# Altium footprint library 插座.PcbLib: 91 footprints (part 6 of 6)
Each footprint in its own frame and in the unit in brackets; x right, y up, seen from the top. Pads: shape width x height; smd on the part's side, far side on the other; paste and mask are expansions set on the pad; w line width, h text height; cw(c..) or ccw(c..) is an arc to the next point about the centre after c.
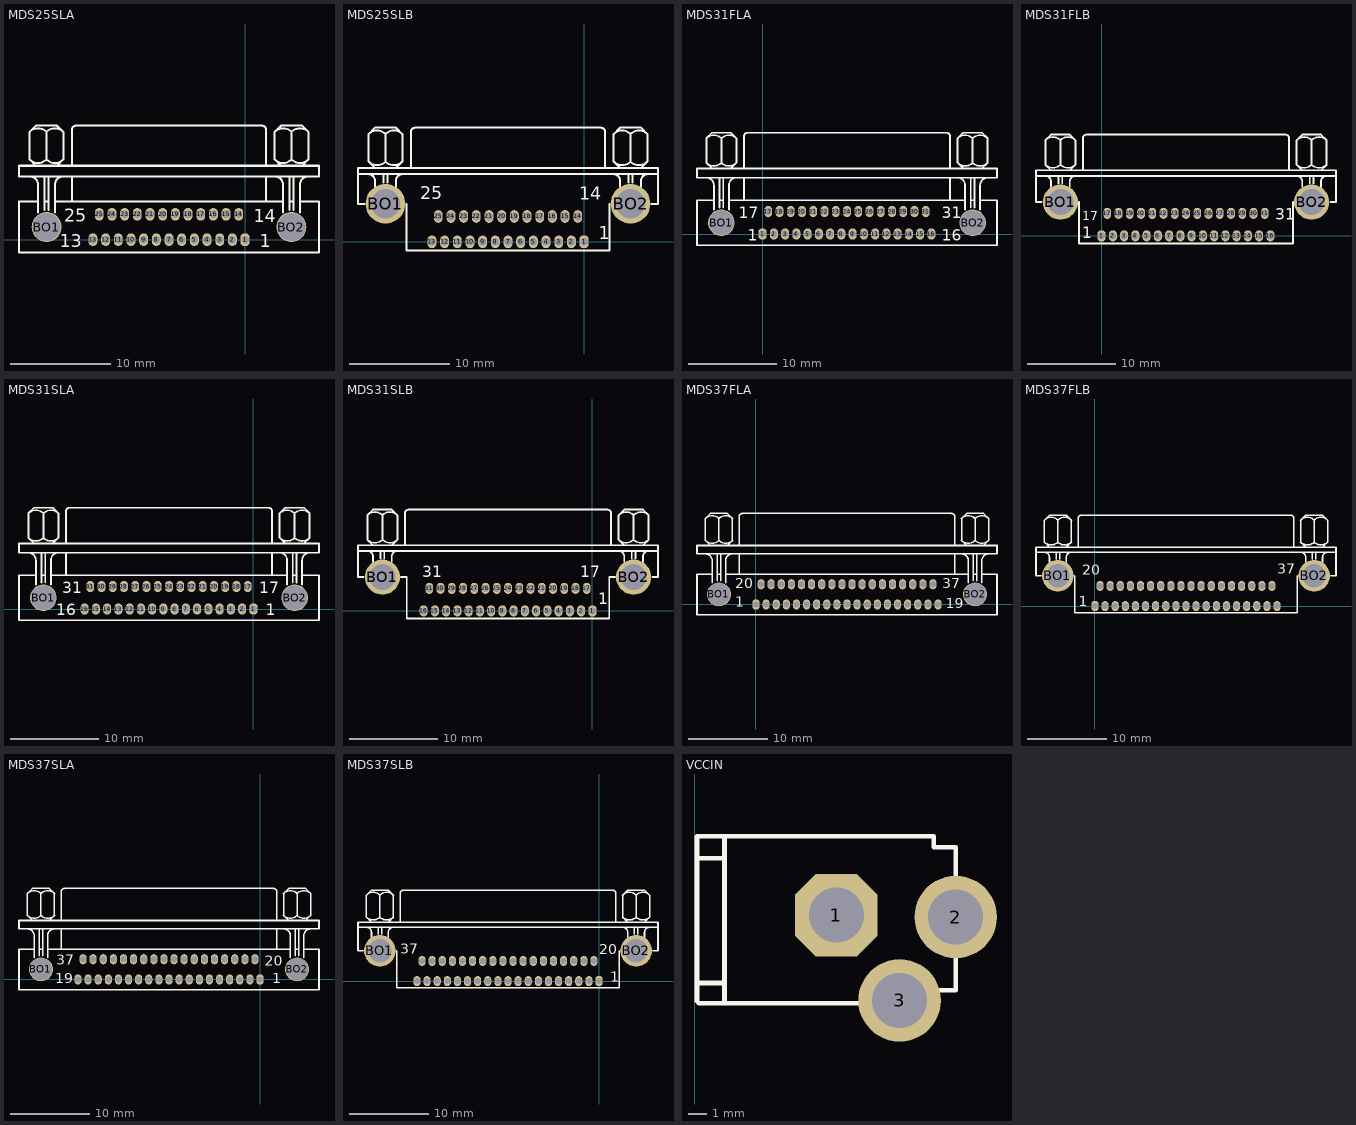
[diagram p5: the footprints below, top view; thin cyan lines are the x and y axes]

## MDS25SLA [mil]
pads (27):
  oct 35x50 hole 30: 1(0,0)
  oval 35x50 hole 30: 2(-50,0) 3(-100,0) 4(-150,0) 5(-200,0) 6(-250,0) 7(-300,0) 8(-350,0) 9(-400,0) 10(-450,0) 11(-500,0) 12(-550,0) 13(-600,0) 14(-25,100) 15(-75,100) 16(-125,100) 17(-175,100) 18(-225,100) 19(-275,100) 20(-325,100) 21(-375,100) 22(-425,100) 23(-475,100) 24(-525,100) 25(-575,100)
  round 118.33 hole 110.83: BO1(-782.5,50) BO2(182.5,50)
TopOverlay:
  lines w8: -850.25,316.41 ccw(c-816.67,350) -783.08,316.41 ; -850.25,425.25 cw(c-816.67,391.67) -783.08,425.25 ; -850,250 cw(c-850,216.67) -816.67,216.67 -816.67,108.33 ; -825,291.67 -850,316.67 -850,425 -825,450 -741.67,450 -716.67,425 -716.67,316.67 -741.67,291.67 ; -816.67,150 -891.67,150 -891.67,-50 291.67,-50 291.67,150 216.67,150 ; -791.67,116.67 -791.67,250 ; -791.67,150 -775,150 ; -783.59,316.41 ccw(c-750,350) -716.41,316.41 ; -783.59,425.25 cw(c-750,391.67) -716.41,425.25 ; -783.33,316.67 -783.33,425 ; -775,116.67 -775,250 ; -750,108.33 -750,216.67 cw(c-716.67,216.67) -716.67,250 ; -750,150 -283.33,150 150,150 ; -683.33,150 -683.33,250 ; -683.33,291.67 -683.33,433.33 cw(c-666.67,433.33) -666.67,450 66.67,450 cw(c66.67,433.33) 83.33,433.33 83.33,291.67 ; 83.33,150 83.33,250 ; 116.41,316.41 ccw(c150,350) 183.59,316.41 ; 116.41,425.25 cw(c150,391.67) 183.59,425.25 ; 116.67,250 cw(c116.67,216.67) 150,216.67 150,108.33 ; 141.67,291.67 116.67,316.67 116.67,425 141.67,450 225,450 250,425 250,316.67 225,291.67 ; 175,116.67 175,250 ; 175,150 191.67,150 ; 183.08,316.41 ccw(c216.67,350) 250.25,316.41 ; 183.08,425.25 cw(c216.67,391.67) 250.25,425.25 ; 183.33,316.67 183.33,425 ; 191.67,116.67 191.67,250 ; 216.67,108.33 216.67,216.67 cw(c250,216.67) 250,250 ; -891.67,250 -891.67,291.67 291.67,291.67 291.67,250 -891.67,250
  text "25" at -713.6,71 h50
  text "13" at -730.1,-29.4 h50
  text "1" at 58.1,-29.4 h50
  text "14" at 34.2,69.5 h50

## MDS25SLB [mil]
pads (27):
  oct 35x50 hole 30: 1(0,0)
  oval 35x50 hole 30: 2(-50,0) 3(-100,0) 4(-150,0) 5(-200,0) 6(-250,0) 7(-300,0) 8(-350,0) 9(-400,0) 10(-450,0) 11(-500,0) 12(-550,0) 13(-600,0) 14(-25,100) 15(-75,100) 16(-125,100) 17(-175,100) 18(-225,100) 19(-275,100) 20(-325,100) 21(-375,100) 22(-425,100) 23(-475,100) 24(-525,100) 25(-575,100)
  round 156.67 hole 115: BO1(-783.33,150) BO2(183.33,150)
TopOverlay:
  lines w8: -866.67,150 -891.67,150 -891.67,266.67 ; -850.25,316.41 ccw(c-816.67,350) -783.08,316.41 ; -850.25,425.25 cw(c-816.67,391.67) -783.08,425.25 ; -850,266.67 cw(c-850,241.67) -825,241.67 -825,216.67 ; -825,291.67 -850,316.67 -850,425 -825,450 -741.67,450 -716.67,425 -716.67,316.67 -741.67,291.67 ; -791.67,233.33 -791.67,266.67 ; -783.59,316.41 ccw(c-750,350) -716.41,316.41 ; -783.59,425.25 cw(c-750,391.67) -716.41,425.25 ; -783.33,316.67 -783.33,425 ; -775,233.33 -775,266.67 ; -741.67,216.67 -741.67,241.67 cw(c-716.67,241.67) -716.67,266.67 ; -700,150 -700,-33.33 100,-33.33 100,150 ; -683.33,291.67 -683.33,433.33 cw(c-666.67,433.33) -666.67,450 66.67,450 cw(c66.67,433.33) 83.33,433.33 83.33,291.67 ; 116.41,316.41 ccw(c150,350) 183.59,316.41 ; 116.41,425.25 cw(c150,391.67) 183.59,425.25 ; 116.67,266.67 cw(c116.67,241.67) 141.67,241.67 141.67,216.67 ; 141.67,291.67 116.67,316.67 116.67,425 141.67,450 225,450 250,425 250,316.67 225,291.67 ; 175,233.33 175,266.67 ; 183.08,316.41 ccw(c216.67,350) 250.25,316.41 ; 183.08,425.25 cw(c216.67,391.67) 250.25,425.25 ; 183.33,316.67 183.33,425 ; 191.67,233.33 191.67,266.67 ; 225,216.67 225,241.67 cw(c250,241.67) 250,266.67 ; 266.67,150 291.67,150 291.67,266.67 ; -891.67,266.67 -891.67,291.67 291.67,291.67 291.67,266.67 ; -891.67,266.67 291.67,266.67
  text "14" at -18.3,165.4 h50
  text "1" at 58.1,9.5 h50
  text "25" at -646.2,168.4 h50

## MDS31FLA [mil]
pads (33):
  oct 35x50 hole 30: 1(0,0)
  oval 35x50 hole 30: 2(50,0) 3(100,0) 4(150,0) 5(200,0) 6(250,0) 7(300,0) 8(350,0) 9(400,0) 10(450,0) 11(500,0) 12(550,0) 13(600,0) 14(650,0) 15(700,0) 16(750,0) 17(25,100) 18(75,100) 19(125,100) 20(175,100) 21(225,100) 22(275,100) 23(325,100) 24(375,100) 25(425,100) 26(475,100) 27(525,100) 28(575,100) 29(625,100) 30(675,100) 31(725,100)
  round 118.33 hole 110.83: BO1(-183.33,50) BO2(933.33,50)
TopOverlay:
  lines w8: -250.25,316.41 ccw(c-216.67,350) -183.08,316.41 ; -250.25,425.25 cw(c-216.67,391.67) -183.08,425.25 ; -250,250 cw(c-250,216.67) -216.67,216.67 -216.67,108.33 ; -225,291.67 -250,316.67 -250,425 -225,450 -141.67,450 -116.67,425 -116.67,316.67 -141.67,291.67 ; -216.67,150 -291.67,150 -291.67,-50 1041.67,-50 1041.67,150 966.67,150 ; -191.67,116.67 -191.67,250 ; -191.67,150 -175,150 ; -183.59,316.41 ccw(c-150,350) -116.41,316.41 ; -183.59,425.25 cw(c-150,391.67) -116.41,425.25 ; -183.33,316.67 -183.33,425 ; -175,116.67 -175,250 ; -150,108.33 -150,216.67 cw(c-116.67,216.67) -116.67,250 ; -150,150 408.33,150 900,150 ; -83.33,150 -83.33,250 ; -83.33,291.67 -83.33,433.33 cw(c-66.67,433.33) -66.67,450 816.67,450 cw(c816.67,433.33) 833.33,433.33 833.33,291.67 ; 833.33,150 833.33,250 ; 866.41,316.41 ccw(c900,350) 933.59,316.41 ; 866.41,425.25 cw(c900,391.67) 933.59,425.25 ; 866.67,250 cw(c866.67,216.67) 900,216.67 900,108.33 ; 891.67,291.67 866.67,316.67 866.67,425 891.67,450 975,450 1000,425 1000,316.67 975,291.67 ; 925,116.67 925,250 ; 925,150 941.67,150 ; 933.08,316.41 ccw(c966.67,350) 1000.25,316.41 ; 933.08,425.25 cw(c966.67,391.67) 1000.25,425.25 ; 933.33,316.67 933.33,425 ; 941.67,116.67 941.67,250 ; 966.67,108.33 966.67,216.67 cw(c1000,216.67) 1000,250 ; -291.67,250 -291.67,291.67 1041.67,291.67 1041.67,250 -291.67,250
  text "17" at -105,70 h50
  text "1" at -65,-30 h50
  text "16" at 795,-30 h50
  text "31" at 795,70 h50

## MDS31FLB [mil]
pads (33):
  oct 35x50 hole 30: 1(0,0)
  oval 35x50 hole 30: 2(50,0) 3(100,0) 4(150,0) 5(200,0) 6(250,0) 7(300,0) 8(350,0) 9(400,0) 10(450,0) 11(500,0) 12(550,0) 13(600,0) 14(650,0) 15(700,0) 16(750,0) 17(25,100) 18(75,100) 19(125,100) 20(175,100) 21(225,100) 22(275,100) 23(325,100) 24(375,100) 25(425,100) 26(475,100) 27(525,100) 28(575,100) 29(625,100) 30(675,100) 31(725,100)
  round 156.67 hole 115: BO1(-183.33,150) BO2(933.33,150)
TopOverlay:
  lines w8: -266.67,150 -291.67,150 -291.67,266.67 ; -250.25,316.41 ccw(c-216.67,350) -183.08,316.41 ; -250.25,425.25 cw(c-216.67,391.67) -183.08,425.25 ; -250,266.67 cw(c-250,241.67) -225,241.67 -225,216.67 ; -225,291.67 -250,316.67 -250,425 -225,450 -141.67,450 -116.67,425 -116.67,316.67 -141.67,291.67 ; -191.67,233.33 -191.67,266.67 ; -183.59,316.41 ccw(c-150,350) -116.41,316.41 ; -183.59,425.25 cw(c-150,391.67) -116.41,425.25 ; -183.33,316.67 -183.33,425 ; -175,233.33 -175,266.67 ; -141.67,216.67 -141.67,241.67 cw(c-116.67,241.67) -116.67,266.67 ; -100,150 -100,-33.33 850,-33.33 850,150 ; -83.33,291.67 -83.33,433.33 cw(c-66.67,433.33) -66.67,450 816.67,450 cw(c816.67,433.33) 833.33,433.33 833.33,291.67 ; 866.41,316.41 ccw(c900,350) 933.59,316.41 ; 866.41,425.25 cw(c900,391.67) 933.59,425.25 ; 866.67,266.67 cw(c866.67,241.67) 891.67,241.67 891.67,216.67 ; 891.67,291.67 866.67,316.67 866.67,425 891.67,450 975,450 1000,425 1000,316.67 975,291.67 ; 925,233.33 925,266.67 ; 933.08,316.41 ccw(c966.67,350) 1000.25,316.41 ; 933.08,425.25 cw(c966.67,391.67) 1000.25,425.25 ; 933.33,316.67 933.33,425 ; 941.67,233.33 941.67,266.67 ; 975,216.67 975,241.67 cw(c1000,241.67) 1000,266.67 ; 1016.67,150 1041.67,150 1041.67,266.67 ; -291.67,266.67 -291.67,291.67 1041.67,291.67 1041.67,266.67 ; -291.67,266.67 1041.67,266.67
  text "17" at -85,70 h40
  text "1" at -85,-10 h50
  text "31" at 772,70.7 h50

## MDS31SLA [mil]
pads (33):
  oct 35x50 hole 30: 1(0,0)
  oval 35x50 hole 30: 2(-50,0) 3(-100,0) 4(-150,0) 5(-200,0) 6(-250,0) 7(-300,0) 8(-350,0) 9(-400,0) 10(-450,0) 11(-500,0) 12(-550,0) 13(-600,0) 14(-650,0) 15(-700,0) 16(-750,0) 17(-25,100) 18(-75,100) 19(-125,100) 20(-175,100) 21(-225,100) 22(-275,100) 23(-325,100) 24(-375,100) 25(-425,100) 26(-475,100) 27(-525,100) 28(-575,100) 29(-625,100) 30(-675,100) 31(-725,100)
  round 118.33 hole 110.83: BO1(-933.33,50) BO2(183.33,50)
TopOverlay:
  lines w8: -1000.25,316.41 ccw(c-966.67,350) -933.08,316.41 ; -1000.25,425.25 cw(c-966.67,391.67) -933.08,425.25 ; -1000,250 cw(c-1000,216.67) -966.67,216.67 -966.67,108.33 ; -975,291.67 -1000,316.67 -1000,425 -975,450 -891.67,450 -866.67,425 -866.67,316.67 -891.67,291.67 ; -966.67,150 -1041.67,150 -1041.67,-50 283.33,-50 291.67,-50 291.67,150 216.67,150 ; -941.67,116.67 -941.67,250 ; -941.67,150 -925,150 ; -933.59,316.41 ccw(c-900,350) -866.41,316.41 ; -933.59,425.25 cw(c-900,391.67) -866.41,425.25 ; -933.33,316.67 -933.33,425 ; -925,116.67 -925,250 ; -900,108.33 -900,216.67 cw(c-866.67,216.67) -866.67,250 ; -900,150 -408.33,150 150,150 ; -833.33,150 -833.33,250 ; -833.33,291.67 -833.33,433.33 cw(c-816.67,433.33) -816.67,450 66.67,450 cw(c66.67,433.33) 83.33,433.33 83.33,291.67 ; 83.33,150 83.33,250 ; 116.41,316.41 ccw(c150,350) 183.59,316.41 ; 116.41,425.25 cw(c150,391.67) 183.59,425.25 ; 116.67,250 cw(c116.67,216.67) 150,216.67 150,108.33 ; 141.67,291.67 116.67,316.67 116.67,425 141.67,450 225,450 250,425 250,316.67 225,291.67 ; 175,116.67 175,250 ; 175,150 191.67,150 ; 183.08,316.41 ccw(c216.67,350) 250.25,316.41 ; 183.08,425.25 cw(c216.67,391.67) 250.25,425.25 ; 183.33,316.67 183.33,425 ; 191.67,116.67 191.67,250 ; 216.67,108.33 216.67,216.67 cw(c250,216.67) 250,250 ; -1041.67,250 291.67,250 291.67,291.67 -1041.67,291.67 -1041.67,250
  text "17" at 25,70 h50
  text "1" at 55.7,-28.8 h50
  text "16" at -875.6,-28.8 h50
  text "31" at -850.3,70.7 h50

## MDS31SLB [mil]
pads (33):
  oct 35x50 hole 30: 1(0,0)
  oval 35x50 hole 30: 2(-50,0) 3(-100,0) 4(-150,0) 5(-200,0) 6(-250,0) 7(-300,0) 8(-350,0) 9(-400,0) 10(-450,0) 11(-500,0) 12(-550,0) 13(-600,0) 14(-650,0) 15(-700,0) 16(-750,0) 17(-25,100) 18(-75,100) 19(-125,100) 20(-175,100) 21(-225,100) 22(-275,100) 23(-325,100) 24(-375,100) 25(-425,100) 26(-475,100) 27(-525,100) 28(-575,100) 29(-625,100) 30(-675,100) 31(-725,100)
  round 156.67 hole 115: BO1(-933.33,150) BO2(183.33,150)
TopOverlay:
  lines w8: -1016.67,150 -1041.67,150 -1041.67,266.67 ; -1000.25,316.41 ccw(c-966.67,350) -933.08,316.41 ; -1000.25,425.25 cw(c-966.67,391.67) -933.08,425.25 ; -1000,266.67 cw(c-1000,241.67) -975,241.67 -975,216.67 ; -975,291.67 -1000,316.67 -1000,425 -975,450 -891.67,450 -866.67,425 -866.67,316.67 -891.67,291.67 ; -941.67,233.33 -941.67,266.67 ; -933.59,316.41 ccw(c-900,350) -866.41,316.41 ; -933.59,425.25 cw(c-900,391.67) -866.41,425.25 ; -933.33,316.67 -933.33,425 ; -925,233.33 -925,266.67 ; -891.67,216.67 -891.67,241.67 cw(c-866.67,241.67) -866.67,266.67 ; -850,150 -825,150 -825,-33.33 75,-33.33 75,150 100,150 ; -833.33,291.67 -833.33,433.33 cw(c-816.67,433.33) -816.67,450 66.67,450 cw(c66.67,433.33) 83.33,433.33 83.33,291.67 ; 116.41,316.41 ccw(c150,350) 183.59,316.41 ; 116.41,425.25 cw(c150,391.67) 183.59,425.25 ; 116.67,266.67 cw(c116.67,241.67) 141.67,241.67 141.67,216.67 ; 141.67,291.67 116.67,316.67 116.67,425 141.67,450 225,450 250,425 250,316.67 225,291.67 ; 175,233.33 175,266.67 ; 183.08,316.41 ccw(c216.67,350) 250.25,316.41 ; 183.08,425.25 cw(c216.67,391.67) 250.25,425.25 ; 183.33,316.67 183.33,425 ; 191.67,233.33 191.67,266.67 ; 225,216.67 225,241.67 cw(c250,241.67) 250,266.67 ; 266.67,150 291.67,150 291.67,266.67 ; -1041.67,266.67 291.67,266.67 ; -1041.67,266.67 -1041.67,291.67 291.67,291.67 291.67,266.67
  text "31" at -755,150 h50
  text "1" at 25,30 h50
  text "17" at -55,150 h50

## MDS37FLA [mil]
pads (39):
  oct 35x50 hole 30: 1(0,0)
  oval 35x50 hole 30: 2(50,0) 3(100,0) 4(150,0) 5(200,0) 6(250,0) 7(300,0) 8(350,0) 9(400,0) 10(450,0) 11(500,0) 12(550,0) 13(600,0) 14(650,0) 15(700,0) 16(750,0) 17(800,0) 18(850,0) 19(900,0) 20(25,100) 21(75,100) 22(125,100) 23(175,100) 24(225,100) 25(275,100) 26(325,100) 27(375,100) 28(425,100) 29(475,100) 30(525,100) 31(575,100) 32(625,100) 33(675,100) 34(725,100) 35(775,100) 36(825,100) 37(875,100)
  round 118.33 hole 110.83: BO1(-183.33,50) BO2(1083.33,50)
TopOverlay:
  lines w8: -250.25,316.41 ccw(c-216.67,350) -183.08,316.41 ; -250.25,425.25 cw(c-216.67,391.67) -183.08,425.25 ; -250,250 cw(c-250,216.67) -216.67,216.67 -216.67,108.33 ; -225,291.67 -250,316.67 -250,425 -225,450 -141.67,450 -116.67,425 -116.67,316.67 -141.67,291.67 ; -216.67,150 -291.67,150 -291.67,-50 1191.67,-50 1191.67,150 1116.67,150 ; -191.67,116.67 -191.67,250 ; -191.67,150 -175,150 ; -183.59,316.41 ccw(c-150,350) -116.41,316.41 ; -183.59,425.25 cw(c-150,391.67) -116.41,425.25 ; -183.33,316.67 -183.33,425 ; -175,116.67 -175,250 ; -150,108.33 -150,216.67 cw(c-116.67,216.67) -116.67,250 ; -150,150 466.67,150 1050,150 ; -83.33,150 -83.33,250 ; -83.33,291.67 -83.33,433.33 cw(c-66.67,433.33) -66.67,450 966.67,450 cw(c966.67,433.33) 983.33,433.33 983.33,291.67 ; 983.33,150 983.33,250 ; 1016.41,316.41 ccw(c1050,350) 1083.59,316.41 ; 1016.41,425.25 cw(c1050,391.67) 1083.59,425.25 ; 1016.67,250 cw(c1016.67,216.67) 1050,216.67 1050,108.33 ; 1041.67,291.67 1016.67,316.67 1016.67,425 1041.67,450 1125,450 1150,425 1150,316.67 1125,291.67 ; 1075,116.67 1075,250 ; 1075,150 1091.67,150 ; 1083.08,316.41 ccw(c1116.67,350) 1150.25,316.41 ; 1083.08,425.25 cw(c1116.67,391.67) 1150.25,425.25 ; 1083.33,316.67 1083.33,425 ; 1091.67,116.67 1091.67,250 ; 1116.67,108.33 1116.67,216.67 cw(c1150,216.67) 1150,250 ; -291.67,250 -291.67,291.67 1191.67,291.67 1191.67,250 -291.67,250
  text "1" at -101.58,-12.53 h50
  text "37" at 920,80 h50
  text "19" at 938.95,-18.18 h50
  text "20" at -102.26,80.96 h50

## MDS37FLB [mil]
pads (39):
  oct 35x50 hole 30: 1(0,0)
  oval 35x50 hole 30: 2(50,0) 3(100,0) 4(150,0) 5(200,0) 6(250,0) 7(300,0) 8(350,0) 9(400,0) 10(450,0) 11(500,0) 12(550,0) 13(600,0) 14(650,0) 15(700,0) 16(750,0) 17(800,0) 18(850,0) 19(900,0) 20(25,100) 21(75,100) 22(125,100) 23(175,100) 24(225,100) 25(275,100) 26(325,100) 27(375,100) 28(425,100) 29(475,100) 30(525,100) 31(575,100) 32(625,100) 33(675,100) 34(725,100) 35(775,100) 36(825,100) 37(875,100)
  round 156.67 hole 115: BO1(-183.33,150) BO2(1083.33,150)
TopOverlay:
  lines w8: -266.67,150 -291.67,150 -291.67,266.67 ; -250.25,316.41 ccw(c-216.67,350) -183.08,316.41 ; -250.25,425.25 cw(c-216.67,391.67) -183.08,425.25 ; -250,266.67 cw(c-250,241.67) -225,241.67 -225,216.67 ; -225,291.67 -250,316.67 -250,425 -225,450 -141.67,450 -116.67,425 -116.67,316.67 -141.67,291.67 ; -191.67,233.33 -191.67,266.67 ; -183.59,316.41 ccw(c-150,350) -116.41,316.41 ; -183.59,425.25 cw(c-150,391.67) -116.41,425.25 ; -183.33,316.67 -183.33,425 ; -175,233.33 -175,266.67 ; -141.67,216.67 -141.67,241.67 cw(c-116.67,241.67) -116.67,266.67 ; -100,150 -100,-33.33 1000,-33.33 1000,150 ; -83.33,291.67 -83.33,433.33 cw(c-66.67,433.33) -66.67,450 966.67,450 cw(c966.67,433.33) 983.33,433.33 983.33,291.67 ; 1016.41,316.41 ccw(c1050,350) 1083.59,316.41 ; 1016.41,425.25 cw(c1050,391.67) 1083.59,425.25 ; 1016.67,266.67 cw(c1016.67,241.67) 1041.67,241.67 1041.67,216.67 ; 1041.67,291.67 1016.67,316.67 1016.67,425 1041.67,450 1125,450 1150,425 1150,316.67 1125,291.67 ; 1075,233.33 1075,266.67 ; 1083.08,316.41 ccw(c1116.67,350) 1150.25,316.41 ; 1083.08,425.25 cw(c1116.67,391.67) 1150.25,425.25 ; 1083.33,316.67 1083.33,425 ; 1091.67,233.33 1091.67,266.67 ; 1125,216.67 1125,241.67 cw(c1150,241.67) 1150,266.67 ; 1166.67,150 1191.67,150 1191.67,266.67 ; -291.67,266.67 -291.67,291.67 1191.67,291.67 1191.67,266.67 ; -291.67,266.67 1191.67,266.67
  text "37" at 900,160 h50
  text "20" at -62.44,156.33 h50
  text "1" at -80,0 h50

## MDS37SLA [mil]
pads (39):
  oct 35x50 hole 30: 1(0,0)
  oval 35x50 hole 30: 2(-50,0) 3(-100,0) 4(-150,0) 5(-200,0) 6(-250,0) 7(-300,0) 8(-350,0) 9(-400,0) 10(-450,0) 11(-500,0) 12(-550,0) 13(-600,0) 14(-650,0) 15(-700,0) 16(-750,0) 17(-800,0) 18(-850,0) 19(-900,0) 20(-25,100) 21(-75,100) 22(-125,100) 23(-175,100) 24(-225,100) 25(-275,100) 26(-325,100) 27(-375,100) 28(-425,100) 29(-475,100) 30(-525,100) 31(-575,100) 32(-625,100) 33(-675,100) 34(-725,100) 35(-775,100) 36(-825,100) 37(-875,100)
  round 118.33 hole 110.83: BO1(-1083.33,50) BO2(183.33,50)
TopOverlay:
  lines w8: -1150.25,316.41 ccw(c-1116.67,350) -1083.08,316.41 ; -1150.25,425.25 cw(c-1116.67,391.67) -1083.08,425.25 ; -1150,250 cw(c-1150,216.67) -1116.67,216.67 -1116.67,108.33 ; -1125,291.67 -1150,316.67 -1150,425 -1125,450 -1041.67,450 -1016.67,425 -1016.67,316.67 -1041.67,291.67 ; -1116.67,150 -1191.67,150 -1191.67,-50 291.67,-50 291.67,150 216.67,150 ; -1091.67,116.67 -1091.67,250 ; -1091.67,150 -1075,150 ; -1083.59,316.41 ccw(c-1050,350) -1016.41,316.41 ; -1083.59,425.25 cw(c-1050,391.67) -1016.41,425.25 ; -1083.33,316.67 -1083.33,425 ; -1075,116.67 -1075,250 ; -1050,108.33 -1050,216.67 cw(c-1016.67,216.67) -1016.67,250 ; -1050,150 150,150 ; -983.33,150 -983.33,250 ; -983.33,291.67 -983.33,433.33 cw(c-966.67,433.33) -966.67,450 66.67,450 cw(c66.67,433.33) 83.33,433.33 83.33,291.67 ; 83.33,150 83.33,250 ; 116.41,316.41 ccw(c150,350) 183.59,316.41 ; 116.41,425.25 cw(c150,391.67) 183.59,425.25 ; 116.67,250 cw(c116.67,216.67) 150,216.67 150,108.33 ; 141.67,291.67 116.67,316.67 116.67,425 141.67,450 225,450 250,425 250,316.67 225,291.67 ; 175,116.67 175,250 ; 175,150 191.67,150 ; 183.08,316.41 ccw(c216.67,350) 250.25,316.41 ; 183.08,425.25 cw(c216.67,391.67) 250.25,425.25 ; 183.33,316.67 183.33,425 ; 191.67,116.67 191.67,250 ; 216.67,108.33 216.67,216.67 cw(c250,216.67) 250,250 ; -1191.67,250 291.67,250 291.67,291.67 -1191.67,291.67 -1191.67,250
  text "20" at 23.98,68.07 h50
  text "37" at -1006.58,73.44 h50
  text "19" at -1012.73,-18.18 h50
  text "1" at 60,-20 h50

## MDS37SLB [mil]
pads (39):
  oct 35x50 hole 30: 1(0,0)
  oval 35x50 hole 30: 2(-50,0) 3(-100,0) 4(-150,0) 5(-200,0) 6(-250,0) 7(-300,0) 8(-350,0) 9(-400,0) 10(-450,0) 11(-500,0) 12(-550,0) 13(-600,0) 14(-650,0) 15(-700,0) 16(-750,0) 17(-800,0) 18(-850,0) 19(-900,0) 20(-25,100) 21(-75,100) 22(-125,100) 23(-175,100) 24(-225,100) 25(-275,100) 26(-325,100) 27(-375,100) 28(-425,100) 29(-475,100) 30(-525,100) 31(-575,100) 32(-625,100) 33(-675,100) 34(-725,100) 35(-775,100) 36(-825,100) 37(-875,100)
  round 156.67 hole 115: BO1(-1083.33,150) BO2(183.33,150)
TopOverlay:
  lines w8: -1166.67,150 -1191.67,150 -1191.67,266.67 ; -1150.25,316.41 ccw(c-1116.67,350) -1083.08,316.41 ; -1150.25,425.25 cw(c-1116.67,391.67) -1083.08,425.25 ; -1150,266.67 cw(c-1150,241.67) -1125,241.67 -1125,216.67 ; -1125,291.67 -1150,316.67 -1150,425 -1125,450 -1041.67,450 -1016.67,425 -1016.67,316.67 -1041.67,291.67 ; -1091.67,233.33 -1091.67,266.67 ; -1083.59,316.41 ccw(c-1050,350) -1016.41,316.41 ; -1083.59,425.25 cw(c-1050,391.67) -1016.41,425.25 ; -1083.33,316.67 -1083.33,425 ; -1075,233.33 -1075,266.67 ; -1041.67,216.67 -1041.67,241.67 cw(c-1016.67,241.67) -1016.67,266.67 ; -1000,150 -1000,-33.33 100,-33.33 100,150 ; -983.33,291.67 -983.33,433.33 cw(c-966.67,433.33) -966.67,450 66.67,450 cw(c66.67,433.33) 83.33,433.33 83.33,291.67 ; 116.41,316.41 ccw(c150,350) 183.59,316.41 ; 116.41,425.25 cw(c150,391.67) 183.59,425.25 ; 116.67,266.67 cw(c116.67,241.67) 141.67,241.67 141.67,216.67 ; 141.67,291.67 116.67,316.67 116.67,425 141.67,450 225,450 250,425 250,316.67 225,291.67 ; 175,233.33 175,266.67 ; 183.08,316.41 ccw(c216.67,350) 250.25,316.41 ; 183.08,425.25 cw(c216.67,391.67) 250.25,425.25 ; 183.33,316.67 183.33,425 ; 191.67,233.33 191.67,266.67 ; 225,216.67 225,241.67 cw(c250,241.67) 250,266.67 ; 266.67,150 291.67,150 291.67,266.67 ; -1191.67,266.67 -1191.67,291.67 291.67,291.67 291.67,266.67 ; -1191.67,266.67 291.67,266.67
  text "1" at 56.69,-2.62 h50
  text "20" at 1.59,133.35 h50
  text "37" at -982.06,136.6 h50

## VCCIN [mm]
pads (3):
  oct 4.5x4.5 hole 3: 1(7.736,-9.576)
  round 4.5 hole 3: 2(14.236,-9.676) 3(11.176,-14.224)
TopOverlay:
  lines w0.254: 0.136,-13.276 1.636,-13.276 ; 0.136,-6.476 1.636,-6.476 ; 1.636,-14.376 1.636,-5.276 ; 3.636,-14.376 12.536,-14.376 13.136,-14.376 13.136,-13.676 14.236,-13.676 14.236,-5.876 13.036,-5.876 13.036,-5.276 3.936,-5.276 0.136,-5.276 0.136,-14.276 0.236,-14.376 3.936,-14.376